# Altium footprint library BluePill.PCBLIB: 2 footprints
Each footprint in its own frame and in the unit in brackets; x right, y up, seen from the top. Pads: shape width x height; smd on the part's side, far side on the other; paste and mask are expansions set on the pad; w line width, h text height; cw(c..) or ccw(c..) is an arc to the next point about the centre after c.
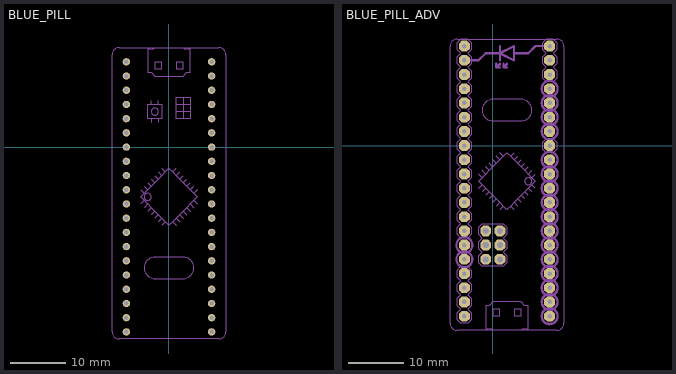
[diagram p0: the footprints below, top view; thin cyan lines are the x and y axes]

## BLUE_PILL [mil]
pads (40):
  round 51.5 / inner round 60 / far side round 51.5 hole 31.5: P$1(-300,600) P$2(-300,500) P$3(-300,400) P$4(-300,300) P$5(-300,200) P$6(-300,100) P$7(-300,0) P$8(-300,-100) P$9(-300,-200) P$10(-300,-300) P$11(-300,-400) P$12(-300,-500) P$13(-300,-600) P$14(-300,-700) P$15(-300,-800) P$16(-300,-900) P$17(-300,-1000) P$18(-300,-1100) P$19(-300,-1200) P$20(-300,-1300) P$21(300,600) P$22(300,500) P$23(300,400) P$24(300,300) P$25(300,200) P$26(300,100) P$27(300,0) P$28(300,-100) P$29(300,-200) P$30(300,-300) P$31(300,-400) P$32(300,-500) P$33(300,-600) P$34(300,-700) P$35(300,-800) P$36(300,-900) P$37(300,-1000) P$38(300,-1100) P$39(300,-1200) P$40(300,-1300)
Top Assembly:
  circle w5: c-150,-350 r25
  circle w5: c-100,250 r25
  lines w5: -200,-400 -175,-375 ; -200,-300 -175,-325 ; -175,-425 -150,-400 ; -175,-275 -150,-300 ; -150,-450 -125,-425 ; -150,-250 -125,-275 ; -125,-475 -100,-450 ; -125,-225 -100,-250 ; -125,175 -125,200 ; -125,325 -125,300 ; -100,-500 -75,-475 ; -100,-200 -75,-225 ; -75,-525 -50,-500 ; -75,-175 -50,-200 ; -75,175 -75,200 ; -75,325 -75,300 ; -50,-550 -25,-525 ; -50,-150 -25,-175 ; 50,-550 25,-525 ; 50,-150 25,-175 ; 75,-525 50,-500 ; 75,-175 50,-200 ; 100,-500 75,-475 ; 100,-200 75,-225 ; 125,-475 100,-450 ; 125,-225 100,-250 ; 150,-450 125,-425 ; 150,-250 125,-275 ; 175,-425 150,-400 ; 175,-275 150,-300 ; 200,-400 175,-375 ; 200,-300 175,-325 ; -175,-375 -150,-400 ; -175,-375 -200,-350 -175,-325 ; -175,-325 -150,-300 ; -150,-400 -125,-425 ; -150,-300 -125,-275 ; -150,700 -100,700 ; -150,700 -150,525 -125,525 -100,500 100,500 125,525 150,525 150,700 ; -150,700 -350,700 ccw(c-350,650) -400,650 -400,-1300 ccw(c-350,-1300) -350,-1350 350,-1350 ccw(c350,-1300) 400,-1300 400,650 ccw(c350,650) 350,700 150,700 ; -150,700 ccw(c-125,725) -100,700 ; -125,-425 -100,-450 ; -125,-275 -100,-250 ; -125,200 -75,200 ; -125,200 -150,200 -150,300 -125,300 ; -125,300 -75,300 ; -100,-450 -75,-475 ; -100,-250 -75,-225 ; -100,700 100,700 ; -75,-475 -50,-500 ; -75,-225 -50,-200 ; -75,200 -50,200 -50,300 -75,300 ; -50,-500 -25,-525 ; -50,-200 -25,-175 ; -25,-525 0,-550 25,-525 ; -25,-175 0,-150 25,-175 ; 25,-525 50,-500 ; 25,-175 50,-200 ; 50,-500 75,-475 ; 50,-200 75,-225 ; 50,250 50,200 100,200 ; 50,250 50,300 ; 50,250 150,250 ; 50,300 50,350 100,350 ; 50,300 150,300 ; 75,-475 100,-450 ; 75,-225 100,-250 ; 100,-450 125,-425 ; 100,-250 125,-275 ; 100,200 100,350 ; 100,200 150,200 150,250 ; 100,350 150,350 150,300 ; 100,700 150,700 ; 100,700 ccw(c125,725) 150,700 ; 125,-425 150,-400 ; 125,-275 150,-300 ; 150,-400 175,-375 ; 150,-300 175,-325 ; 150,250 150,300 ; 175,-375 200,-350 175,-325 ; -175,-850 ccw(c-100,-850) -100,-925 100,-925 ccw(c100,-850) 175,-850 ccw(c100,-850) 100,-775 -100,-775 ccw(c-100,-850) -175,-850 ; -100,550 -100,600 -50,600 -50,550 -100,550 ; 50,550 50,600 100,600 100,550 50,550

## BLUE_PILL_ADV [mil]
pads (46):
  oct 76x76 / inner oct 60x60 / far side oct 76x76 hole 31.5: P$1(400,-1200) P$2(400,-1100) P$3(400,-1000) P$4(400,-900) P$5(400,-800) P$6(400,-700) P$7(400,-600) P$8(400,-500) P$9(400,-400) P$10(400,-300) P$11(400,-200) P$12(400,-100) P$13(400,0) P$14(400,100) P$15(400,200) P$16(400,300) P$17(400,400) P$18(400,500) P$19(400,600) P$20(400,700) P$21(-200,-1200) P$22(-200,-1100) P$23(-200,-1000) P$24(-200,-900) P$25(-200,-800) P$26(-200,-700) P$27(-200,-600) P$28(-200,-500) P$29(-200,-400) P$30(-200,-300) P$31(-200,-200) P$32(-200,-100) P$33(-200,0) P$34(-200,100) P$35(-200,200) P$36(-200,300) P$37(-200,400) P$38(-200,500) P$39(-200,600) P$40(-200,700)
  oct 76x76 / inner oct 60x60 / far side oct 76x76 hole 43.31: P$42(-50,-800) P$43(-50,-700) P$44(-50,-600) P$45(50,-600) P$46(50,-700) P$47(50,-800)
Top Assembly:
  circle w5: c250,-250 r25
  lines w5: -100,-300 -75,-275 ; -100,-200 -75,-225 ; -75,-325 -50,-300 ; -75,-175 -50,-200 ; -50,-350 -25,-325 ; -50,-150 -25,-175 ; -25,-375 0,-350 ; -25,-125 0,-150 ; 0,-400 25,-375 ; 0,-100 25,-125 ; 25,-425 50,-400 ; 25,-75 50,-100 ; 50,-450 75,-425 ; 50,-50 75,-75 ; 150,-450 125,-425 ; 150,-50 125,-75 ; 175,-425 150,-400 ; 175,-75 150,-100 ; 200,-400 175,-375 ; 200,-100 175,-125 ; 225,-375 200,-350 ; 225,-125 200,-150 ; 250,-350 225,-325 ; 250,-150 225,-175 ; 275,-325 250,-300 ; 275,-175 250,-200 ; 300,-300 275,-275 ; 300,-200 275,-225 ; -75,-275 -50,-300 ; -75,-275 -100,-250 -75,-225 ; -75,-225 -50,-200 ; -50,-1300 0,-1300 ; -50,-1300 -50,-1125 -25,-1125 0,-1100 200,-1100 225,-1125 250,-1125 250,-1300 ; -50,-1300 -250,-1300 cw(c-250,-1250) -300,-1250 -300,700 cw(c-250,700) -250,750 450,750 cw(c450,700) 500,700 500,-1250 cw(c450,-1250) 450,-1300 250,-1300 ; -50,-1300 cw(c-25,-1325) 0,-1300 ; -50,-300 -25,-325 ; -50,-200 -25,-175 ; -25,-325 0,-350 ; -25,-175 0,-150 ; 0,-1300 200,-1300 ; 0,-350 25,-375 ; 0,-150 25,-125 ; 25,-375 50,-400 ; 25,-125 50,-100 ; 50,-400 75,-425 ; 50,-100 75,-75 ; 75,-425 100,-450 125,-425 ; 75,-75 100,-50 125,-75 ; 125,-425 150,-400 ; 125,-75 150,-100 ; 150,-400 175,-375 ; 150,-100 175,-125 ; 175,-375 200,-350 ; 175,-125 200,-150 ; 200,-1300 250,-1300 ; 200,-1300 cw(c225,-1325) 250,-1300 ; 200,-350 225,-325 ; 200,-150 225,-175 ; 225,-325 250,-300 ; 225,-175 250,-200 ; 250,-300 275,-275 ; 250,-200 275,-225 ; 275,-275 300,-250 275,-225 ; -75,250 cw(c0,250) 0,325 200,325 cw(c200,250) 275,250 cw(c200,250) 200,175 0,175 cw(c0,250) -75,250 ; 0,-1200 0,-1150 50,-1150 50,-1200 0,-1200 ; 150,-1200 150,-1150 200,-1150 200,-1200 150,-1200
Unrouted:
  drawing of 284 lines, arcs and shapes, not listed
5V:
  circle w16: c400,400 r55.9
  circle w16: c400,300 r55.9
  circle w16: c400,200 r55.9
  circle w16: c400,100 r55.9
  circle w16: c400,-100 r55.9
  circle w16: c400,-200 r55.9
  circle w16: c400,-200 r55.9
  circle w16: c400,-300 r55.9
  circle w16: c400,-400 r55.9
  circle w16: c400,-500 r55.9
  circle w16: c400,-600 r55.9
  circle w16: c400,-700 r55.9
  circle w16: c400,-800 r55.9
  circle w16: c400,-900 r55.9
  circle w16: c400,-1000 r55.9
  circle w16: c400,-1100 r55.9
  circle w16: c400,-1200 r55.9
  circle w16: c-200,-800 r55.9
  circle w16: c-200,-700 r55.9